# Altium footprint library 20PIN_TEST.PcbLib: 1 footprints
Each footprint in its own frame and in the unit in brackets; x right, y up, seen from the top. Pads: shape width x height; smd on the part's side, far side on the other; paste and mask are expansions set on the pad; w line width, h text height; cw(c..) or ccw(c..) is an arc to the next point about the centre after c.
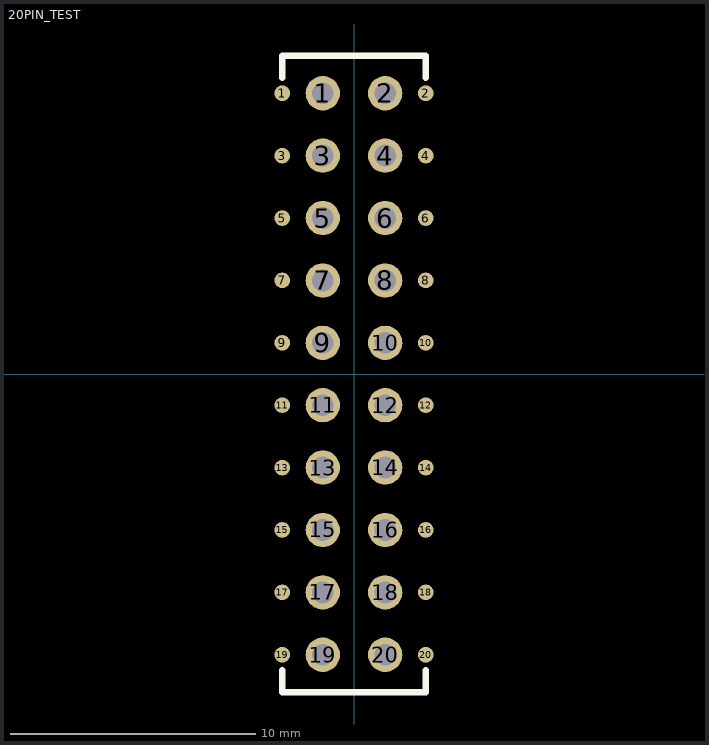
[diagram p0: the footprint, top view; thin cyan lines are the x and y axes]

## 20PIN_TEST [mil] "带测试点的连接器座"
pads (40):
  round 25 smd: 1(-115,450) 2(115,450) 3(-115,350) 4(115,350) 5(-115,250) 6(115,250) 7(-115,150) 8(115,150) 9(-115,50) 10(115,50) 11(-115,-50) 12(115,-50) 13(-115,-150) 14(115,-150) 15(-115,-250) 16(115,-250) 17(-115,-350) 18(115,-350) 19(-115,-450) 20(115,-450)
  round 55 hole 35: 1(-50,450) 2(50,450) 3(-50,350) 4(50,350) 5(-50,250) 6(50,250) 7(-50,150) 8(50,150) 9(-50,50) 10(50,50) 11(-50,-50) 12(50,-50) 13(-50,-150) 14(50,-150) 15(-50,-250) 16(50,-250) 17(-50,-350) 18(50,-350) 19(-50,-450) 20(50,-450)
Top Overlay:
  lines w10: -115,-475 -115,-510 115,-510 115,-475 ; -115,475 -115,510 115,510 115,475